# Altium schematic symbol library UJ20-C-H-G-MSMT-4B-P16-TR.SchLib: 1 symbol
Pins are listed as number, name and electrical type; pins without a type are passive.

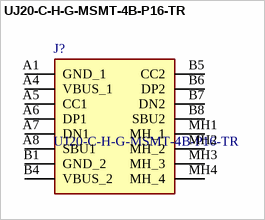
[diagram p0: symbol UJ20-C-H-G-MSMT-4B-P16-TR]

## UJ20-C-H-G-MSMT-4B-P16-TR
designator J?
Type C, USB 2.0, 480 Mbps, 20 Vdc, 3 A, Horizontal, Mid Mount SMT, SMT Contacts, Gold Flash, 16 Pins, USB Receptacle; Manufacturer_Name: Same Sky; Geometry.Height: 2.6mm; Mouser Part Number: *; Mouser Price/Stock: *; Manufacturer_Part_Number: UJ20-C-H-G-MSMT-4B-P16-TR; Datasheet Link: https://www.sameskydevices.com/product/resource/uj20-c-h-g-msmt-4b-p16-tr.pdf
footprint UJ20CHGMSMT4BP16TR
pins: A1 GND_1, A4 VBUS_1, A5 CC1, A6 DP1, A7 DN1, A8 SBU1, B1 GND_2, B4 VBUS_2, B5 CC2, B6 DP2, B7 DN2, B8 SBU2, MH1 MH_1, MH2 MH_2, MH3 MH_3, MH4 MH_4